# EAGLE library part SWS006 (library roshea)
SMD Dip Switch 6 pol.
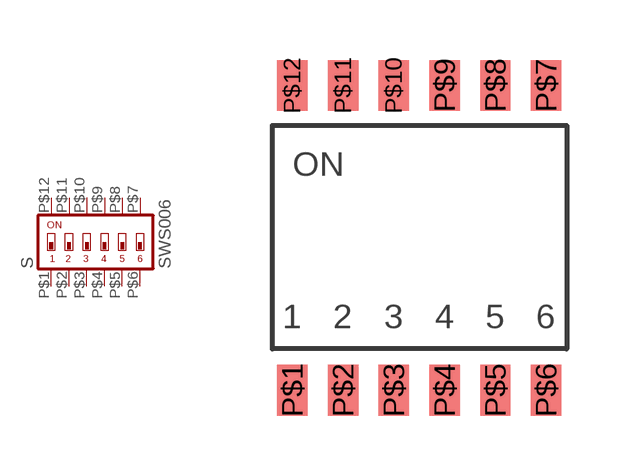
[diagram p0: symbol with the pads of SMS-006; footprint SMS-006]

Designator prefix S

## SWS0060.05IN  [SMS-006]
P$1  1  pas
P$2  2  pas
P$3  3  pas
P$4  4  pas
P$5  5  pas
P$6  6  pas
P$7  7  pas
P$8  8  pas
P$9  9  pas
P$10  10  pas
P$11  11  pas
P$12  12  pas

## Footprint SMS-006 (pad centres in mm)
DIP SWITCH
smd 0.76 x 1.27: P$1 0.5,1; P$2 1.77,1; P$3 3.04,1; P$4 4.31,1; P$5 5.58,1; P$6 6.85,1; P$7 6.85,8.62; P$8 5.58,8.62; P$9 4.31,8.62; P$10 3.04,8.62; P$11 1.77,8.62; P$12 0.5,8.62